# Altium integrated library VCA824.IntLib: 1 symbol
Pins are listed as number, name and electrical type; pins without a type are passive.

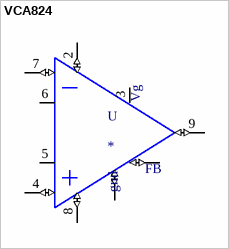
[diagram p0: symbol VCA824]

## VCA824
designator U
Усилитель с переменным коэффициентом усиления 1 Схема 10-ВССОП; MF: Texas Instruments; MP: VCA824
footprint MSOP10
pins: 1 FB (io), 2 V+ (io), 3 VG (io), 4 IN+ (io), 5 RG+ (io), 6 RG- (io), 7 IN- (io), 8 V- (io), 9 OUT (io), 10 GND (io)
text: Vg; gnd